# Altium footprint library PCB - CONNECTOR - MOLEX - MOLEX 395021003.PcbLib: 1 footprints
Each footprint in its own frame and in the unit in brackets; x right, y up, seen from the top. Pads: shape width x height; smd on the part's side, far side on the other; paste and mask are expansions set on the pad; w line width, h text height; cw(c..) or ccw(c..) is an arc to the next point about the centre after c.
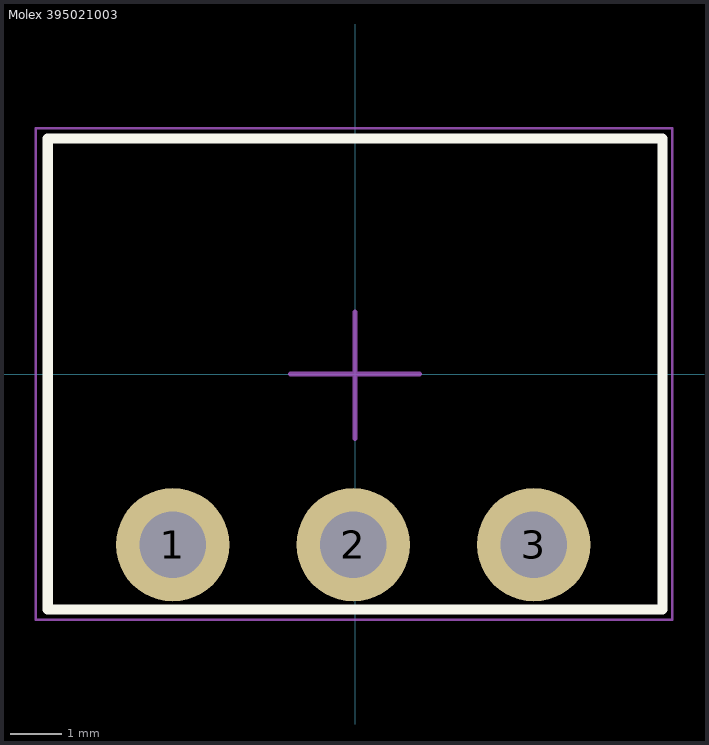
[diagram p0: the footprint, top view; thin cyan lines are the x and y axes]

## Molex 395021003 [mm] "3 Position Terminal Block Header, Male Pins, 3.5mm Pitch,11.94mmx9.2mm Body, 90°, Right Angle, THT"
height 7.3
pads (3):
  round 2.2 hole 1.295: 1(-3.542,-3.315) 2(-0.036,-3.315) 3(3.469,-3.315)
Top Overlay:
  lines w0.2: -5.969,-4.572 -5.969,4.572 5.969,4.572 5.969,-4.572 -5.969,-4.572
Mechanical 13:
  lines w0.1: -5.969,-4.572 5.969,-4.572 5.969,4.572 -5.969,4.572 -5.969,-4.572
Mechanical 15 (Mech15):
  lines w0.05: -6.2,-4.772 -6.2,4.772 6.157,4.772 6.157,-4.772 -6.2,-4.772
  lines w0.1: -1.25,0 0,0 ; 0,-1.25 0,0 ; 0,1.2 0,0 ; 1.25,0 0,0
3D body "Molex - 395021003 v1.step": height 7.11, standoff -3.56, extent -5.969,-4.572 5.969,4.572